# Altium schematic symbol library USB-A-SMT.SchLib: 1 symbol
Pins are listed as number, name and electrical type; pins without a type are passive.

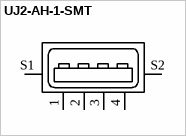
[diagram p0: symbol UJ2-AH-1-SMT]

## UJ2-AH-1-SMT
designator J?  (value not drawn)
Standard A type 4 pin Horizontal 3 Âµin Plating SMT USB 2.0 Jack; MP: UJ2-AH-1-SMT-TR; MF: CUI Inc.; CUI_purchase_URL: https://www.cui.com/product/interconnect/usb-connectors/type-a/uj2-ah-smt-series?utm_source=snapeda.com&utm_medium=referral&utm_campaign=snapedaBOM; Package: None; Availability: Unavailable; SnapEDA_Link: https://www.snapeda.com/parts/UJ2-AH-1-SMT-TR/CUI%20Inc./view-part/?ref=snap; Price: None; Value: *
footprint CUI_UJ2-AH-1-SMT_UJ2-AH-1-SMT(Primary)
pins: 1, 2, 3, 4, S1 SHIELD, S2 SHIELD